# Altium footprint library power2.PcbLib: 1 footprints
Each footprint in its own frame and in the unit in brackets; x right, y up, seen from the top. Pads: shape width x height; smd on the part's side, far side on the other; paste and mask are expansions set on the pad; w line width, h text height; cw(c..) or ccw(c..) is an arc to the next point about the centre after c.
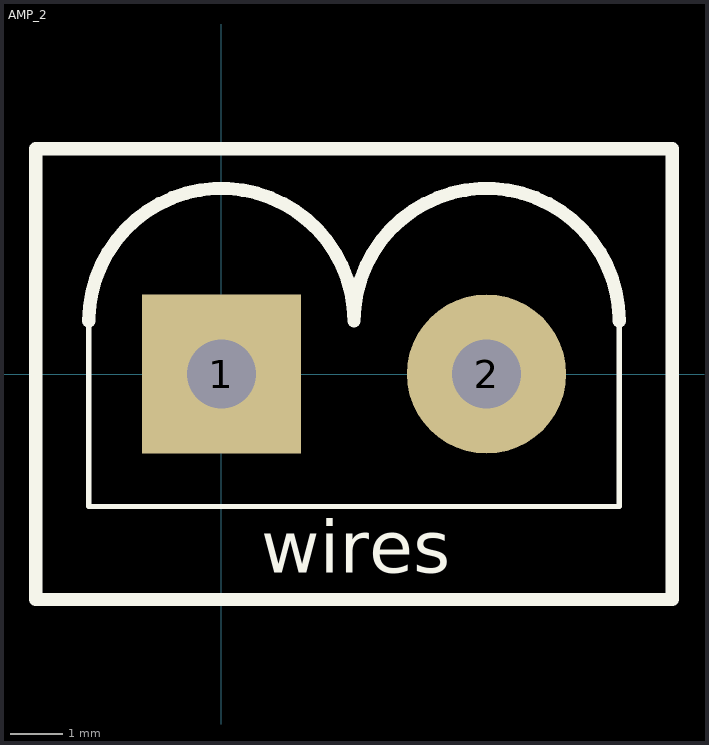
[diagram p0: the footprint, top view; thin cyan lines are the x and y axes]

## AMP_2 [mil]
pads (2):
  rect 120x120 hole 52: 1(0,0)
  round 120 hole 52: 2(200,0)
Top Overlay:
  lines w3.94: -100,40 -100,-100 300,-100 300,40
  lines w10: -100,40 cw(c0,40) 100,40 cw(c200,40) 300,40 ; -140,-170 -140,170 340,170 340,-170 -140,-170
  text "wires" at 30,-150 h39.37
3D body "power2.step": height 393.7, standoff -177.17, extent -118.66,-130.28 298.66,165